# Altium schematic symbol library HVP012A.SCHLIB: 48 symbols
Pins are listed as number, name and electrical type; pins without a type are passive.

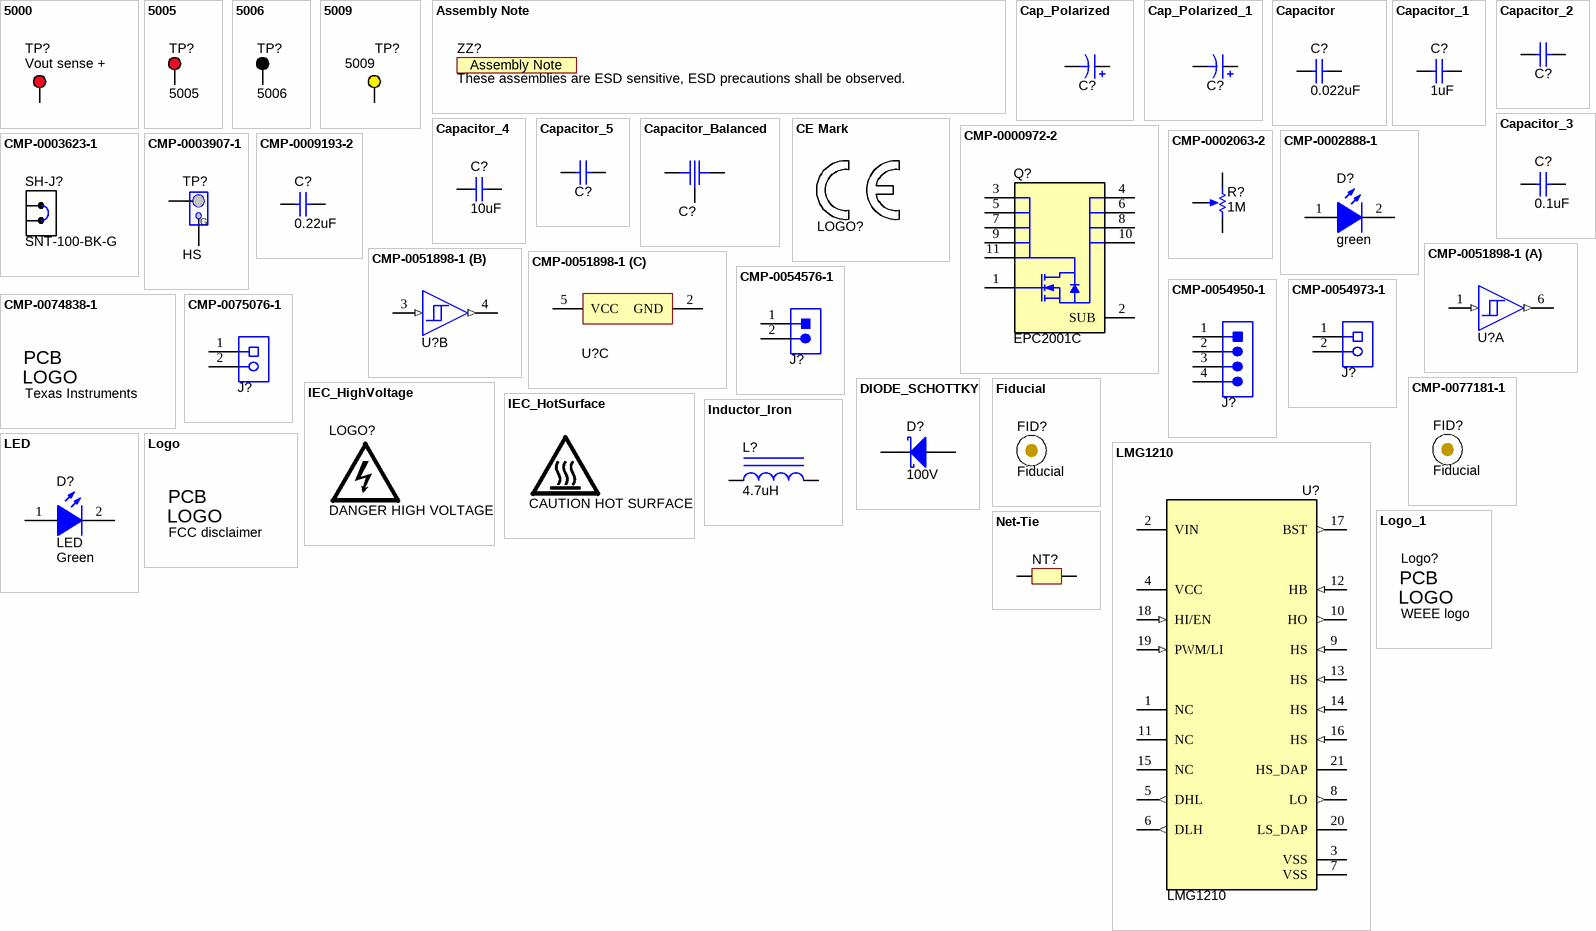
[diagram p0: symbols 5000 to Net-Tie]

## 5000
designator TP?, comment Vout sense +
Test Point, Miniature, Red, TH; Manufacturer: Keystone; PartNumber: 5000; CNHeader: FALSE; Green_Lifecycle: Active; Green_REACh: Passed; ContactFinish: Silver; CT: TRUE; ComponentLink1URL: http://www.keyelco.com/userAssets/file/M60-2p60.pdf; Supplier Part Number 2: 534-5000; Publisher: Texas Instruments; Supplier 2: Mouser; Color: Red; RoHS: Y; MountType: TH; Green_EU RoHS-2: Incomplete; Supplier 1: Digi-Key; Green_EU RoHS: Passed; PackageReference: Red Miniature Testpoint; CompType: Test Point; LatestRevisionDate: 26/05/2017; ComponentLink1Description: Datasheet URL; Supplier Part Number 1: 36-5000-ND
footprint Keystone5000 (For Keystone 500x miniature loop terminals)
pins: 1

## 5005
designator TP?
Test Point, Compact, Red, TH; Manufacturer: Keystone; CNHeader: FALSE; ContactFinish: Silver; CT: TRUE; Green_Lifecycle: Active; Green_REACh: Passed; PartNumber: 5005; PackageReference: Red Compact Testpoint; CompType: Test Point; RoHS: Y; MountType: TH; ComponentLink1Description: Datasheet URL; ComponentLink1URL: http://www.keyelco.com/userAssets/file/M60-2p60.pdf; Publisher: Texas Instruments; LatestRevisionDate: 26/05/2017; Supplier 1: Digi-Key; Supplier Part Number 1: 36-5005-ND; Supplier 2: Mouser; Supplier Part Number 2: 534-5005; Color: Red; Green_EU RoHS-2: Passed; Green_EU RoHS: Passed
footprint Keystone5005 (Keystone Compact loops)
pins: 1

## 5006
designator TP?
Test Point, Compact, Black, TH; Manufacturer: Keystone; CNHeader: FALSE; ContactFinish: Silver; CT: TRUE; Green_Lifecycle: Active; Green_REACh: Passed; PartNumber: 5006; PackageReference: Black Compact Testpoint; CompType: Test Point; RoHS: Y; MountType: TH; ComponentLink1Description: Datasheet URL; ComponentLink1URL: http://www.keyelco.com/userAssets/file/M60-2p60.pdf; Publisher: Texas Instruments; LatestRevisionDate: 26/05/2017; Supplier 1: Digi-Key; Supplier Part Number 1: 36-5006-ND; Supplier 2: Mouser; Supplier Part Number 2: 534-5006; Color: Black; Green_EU RoHS-2: Incomplete; Green_EU RoHS: Passed
footprint Keystone5006 (Keystone Compact loops)
pins: 1

## 5009
designator TP?
Test Point, Compact, Yellow, TH; Manufacturer: Keystone; ContactFinish: Silver; CNHeader: FALSE; CT: TRUE; Green_Lifecycle: Active; Green_REACh: Passed; PartNumber: 5009; PackageReference: Yellow Compact Testpoint; CompType: Test Point; RoHS: Y; MountType: TH; ComponentLink1Description: Datasheet URL; ComponentLink1URL: http://www.keyelco.com/userAssets/file/M60-2p60.pdf; Color: Yellow; Publisher: Texas Instruments; LatestRevisionDate: 26/05/2017; Supplier 1: Digi-Key; Supplier Part Number 1: 36-5009-ND; Supplier 2: Mouser; Supplier Part Number 2: 534-5009; Green_EU RoHS-2: Incomplete; Green_EU RoHS: Passed
footprint Keystone5009 (Keystone Compact loops)
pins: 1

## Assembly Note
designator ZZ?, comment These assemblies are ESD sensitive, ESD precautions shall be observed.  (no BOM)
CompType: AssemblyNote; ClassName: AssemblyNote; Publisher: Texas Instruments; LatestRevisionDate: 2017-08-10; Key: AssemblyNote
footprint AssemblyNote (Assembly Note)

## Cap_Polarized
designator C?  (value not drawn)
CAP, AL, 22 uF, 20 V, +/- 20%, 0.06 ohm, SMD; PartNumber: APXH200ARA220MF60G; Manufacturer: Chemi-Con; Polarized: Y; CompType: Capacitor; Value: 22uF; U/M: EA; Cap_F: 22µF; VDC_V: 20V; ESR_ohm: 0.06; IRMS_A: 1.65A; TaMin_C: -55°C; TaMax_C: 125°C; Cap_Case: F60; SizeAreaWB_mm2: 77.44; SizeArea_mm2: 46.24; SizeX_mm: 6.8; SizeZ_mm: 6; AEC Category: Q200; ValueDisplayed: 22uF; PackageReference: F60; RoHS: Y; Tolerance_%: 20%; Value1: 0.06 ohm; Value2: 20V; MountType: SMT; Technology: AL; Series: PXH; SizeY_mm: 6.8; Publisher: Texas Instruments; LatestRevisionDate: 2017-03-09; ComponentLink1Description: Datasheet link; ComponentLink1URL: http://www.chemi-con.co.jp/cgi-bin/CAT_DB/SEARCH/cat_db_al.cgi?e=e&j=p&pdfname=pxh; Supplier 1: Digi-Key; Supplier Part Number 1: 565-3149-1-ND; Supplier 2: Mouser; Supplier Part Number 2: 661-PXH20V220M; AEC Qualified: ?
footprint CAPSMT_62_F60 (6.3 x 5.7mm:  Chemi-Con F60)
pins: 1 +, 2 -

## Cap_Polarized_1
designator C?, comment Cap_Polarized  (value not drawn)
CAP, AL, 47 uF, 20 V, +/- 20%, 0.045 ohm, SMD; PartNumber: APXH200ARA470MH70G; Manufacturer: Chemi-Con; Polarized: Y; CompType: Capacitor; Value: 47uF; U/M: EA; Cap_F: 47µF; VDC_V: 20V; ESR_ohm: 0.045; IRMS_A: 2A; TaMin_C: -55°C; TaMax_C: 125°C; Cap_Case: H70; SizeAreaWB_mm2: 110.25; SizeArea_mm2: 72.25; SizeX_mm: 8.5; SizeZ_mm: 7; AEC Category: Q200; ValueDisplayed: 47uF; PackageReference: H70; RoHS: Y; Tolerance_%: 20%; Value1: 0.045 ohm; Value2: 20V; MountType: SMT; Technology: AL; Series: PXH; SizeY_mm: 8.5; Publisher: Texas Instruments; LatestRevisionDate: 2017-03-09; ComponentLink1Description: Datasheet link; ComponentLink1URL: http://www.chemi-con.co.jp/cgi-bin/CAT_DB/SEARCH/cat_db_al.cgi?e=e&j=p&pdfname=pxh; Supplier 1: Digi-Key; Supplier Part Number 1: 565-3150-1-ND; Supplier 2: Mouser; Supplier Part Number 2: 661-PXH20V470M; AEC Qualified: ?
footprint CAPSMT_62_H70 (8 x 6.7mm:  Chemi-Con H70)
pins: 1 +, 2 -

## Capacitor
designator C?  ValueDisplayed: 0.022uF  (hidden comment: Capacitor)
CAP, CERM, 0.022 uF, 250 V, +/- 10%, X7R, 0805; PartNumber: QMK212B7223KG-T; Manufacturer: Taiyo Yuden; Polarized: N; U/M: EA; Cap_F: 22nF; Value1: Unknown; VDC_V: 250V; TaMin_C: -55°C; TaMax_C: 125°C; Cap_Case: 0805; SizeArea_mm2: 2.5; SizeAreaWB_mm2: 6.75; SizeX_mm: 2; SizeY_mm: 1.25; SizeZ_mm: 1.45; AEC Category: Q200; CompType: Capacitor; Value: 0.022uF; PackageReference: 0805; RoHS: Y; Tolerance_%: 10%; Value2: 250V; MountType: SMT; Technology: Ceramic; TempCo: X7R; Published: 2008-06-19; Publisher: Texas Instruments; LatestRevisionDate: 2017-03-09; ComponentLink1Description: Datasheet link; ComponentLink1URL: http://www.yuden.co.jp/ut/product/pdf/dhmk_e.pdf; Supplier 1: Digi-Key; Supplier Part Number 1: 587-1272-1-ND; Supplier 2: Newark; Supplier Part Number 2: 77M8478; Supplier 3: Farnell; Supplier Part Number 3: 1683685; AEC Qualified: ?
footprint 0805_HV (0805 with 30mil clearance between pads)
footprint 0805M (0805 from SM-752 data)
footprint 0805 (0805 from SM-752 data)
footprint 0805L (0805 from SM-752 data)
footprint 0805_HV1 (Custom footprint based on analyzing multiple manufacturer recommendations)
pins: 1, 2

## Capacitor_1
designator C?, comment ValueDisplayed: 1uF  (hidden comment: Capacitor)
CAP, CERM, 1 uF, 250 V, +/- 10%, X7R, 2220; PartNumber: GRM55DR72E105KW01L; Manufacturer: MuRata; Polarized: N; Value: 1uF; U/M: EA; Cap_F: 1µF; ESR_ohm: 7.086m; Value1: 0.007086 ohm; VDC_V: 250V; IRMS_A: 2.0605A; TaMin_C: -55°C; TaMax_C: 125°C; Cap_Case: 2220; SizeArea_mm2: 28.5; SizeAreaWB_mm2: 53.9; SizeX_mm: 5.7; SizeY_mm: 5; SizeZ_mm: 2; AEC Category: Q200; CompType: Capacitor; PackageReference: 2220; RoHS: Y; Tolerance_%: 10%; Value2: 250V; MountType: SMT; Technology: Ceramic; TempCo: X7R; Published: 2008-06-19; Publisher: Texas Instruments; LatestRevisionDate: 2017-03-09; ComponentLink1Description: Datasheet link; ComponentLink1URL: http://psearch.en.murata.com/capacitor/product/GRM55DR72E105KW01%23.pdf; Supplier 1: Digi-Key; Supplier Part Number 1: 490-3550-1-ND; Supplier 2: Newark; Supplier Part Number 2: 14T3417; Supplier 3: Mouser; Supplier Part Number 3: 81-GRM55RR72E105K; AEC Qualified: N; AEC Grade: N/A
footprint 2220_200 (Chip Capacitor, Body 5.7x5.0mm, IPC Medium Density)
footprint 2220_200L (Chip Capacitor, Body 5.7x5.0mm, IPC High Density)
footprint 2220_200M (Chip Capacitor, Body 5.7x5.0mm, IPC Low Density)
pins: 1, 2

## Capacitor_2
designator C?, comment Capacitor  (value not drawn)
CAP, CERM, 0.22 uF, 250 V, +/- 10%, X7R, 1210; PartNumber: GRM32DR72E224KW01L; Manufacturer: MuRata; Polarized: N; Value: 0.22uF; U/M: EA; Cap_F: 220nF; Value1: Unknown; VDC_V: 250V; TaMin_C: -55°C; TaMax_C: 125°C; Cap_Case: 1210; SizeArea_mm2: 8; SizeAreaWB_mm2: 14.7; SizeX_mm: 3.2; SizeY_mm: 2.5; SizeZ_mm: 2.2; AEC Category: Q200; CompType: Capacitor; ValueDisplayed: 0.22uF; PackageReference: 1210; RoHS: Y; Tolerance_%: 10%; Value2: 250V; MountType: SMT; Technology: Ceramic; TempCo: X7R; Published: 2008-06-19; Publisher: Texas Instruments; LatestRevisionDate: 2017-03-09; ComponentLink1Description: Datasheet link; ComponentLink1URL: http://search.murata.co.jp/Ceramy/PnsearchViewAction.do?HnOFG=ON&HnNFG=ON&SEL_CNT=50&sLang=en&sKey=GRM32DR72E224KW01L&x=9&y=9&search=startwith; Supplier 1: Digi-Key; Supplier Part Number 1: 490-3545-1-ND; Supplier 2: Mouser; Supplier Part Number 2: 81-GRM32DR72E224KW01; Supplier 3: Farnell; Supplier Part Number 3: 1828959; AEC Qualified: ?
footprint 1210_220 (1210)
footprint 1210_220L (1210)
footprint 1210_220M (1210)
pins: 1, 2

## Capacitor_3
designator C?, comment ValueDisplayed: 0.1uF  (hidden comment: Capacitor)
CAP, CERM, 0.1 uF, 25 V, +/- 10%, X7R, 0603; PartNumber: GRM188R71E104KA01D; Manufacturer: MuRata; Polarized: N; Value: 0.1uF; U/M: EA; Cap_F: 100nF; Value1: Unknown; VDC_V: 25V; TaMin_C: -55°C; TaMax_C: 125°C; Cap_Case: 0603; AEC Category: Q200; SizeArea_mm2: 1.28; SizeAreaWB_mm2: 4.68; SizeX_mm: 1.6; SizeY_mm: 0.8; SizeZ_mm: 1; CompType: Capacitor; RoHS: Y; Tolerance_%: 10%; Value2: 25V; MountType: SMT; Technology: Ceramic; TempCo: X7R; Published: 2008-06-19; Publisher: Texas Instruments; LatestRevisionDate: 2017-03-09; ComponentLink1Description: Datasheet link; ComponentLink1URL: http://search.murata.co.jp/Ceramy/PnsearchViewAction.do?HnOFG=ON&HnNFG=ON&SEL_CNT=50&sLang=en&sKey=GRM188R71E104KA01D&x=9&y=9&search=startwith; Supplier 1: Digi-Key; Supplier Part Number 1: 490-1524-1-ND; Supplier 2: Mouser; Supplier Part Number 2: 81-GRM39X104K25; Supplier 3: Farnell; Supplier Part Number 3: 1828899; AEC Qualified: ?; PackageReference: 0603
footprint 0603 (0603 from SM-752 data)
footprint 0603_HV (Ernesto recommended land pattern.  26 mil between pads.)
footprint 0603L (0603 from SM-752 data)
footprint 0603S
footprint 0603M (0603 from SM-752 data)
pins: 1, 2

## Capacitor_4
designator C?, comment ValueDisplayed: 10uF  (hidden comment: Capacitor)
CAP, CERM, 10 uF, 25 V, +/- 10%, X7R, 1206; PartNumber: 885012208069; Manufacturer: Wurth Elektronik; Polarized: N; Value: 10uF; U/M: EA; Cap_F: 10µF; Value1: Unknown; VDC_V: 25V; TaMin_C: -55°C; TaMax_C: 125°C; Cap_Case: 1206; AEC Category: Q200; SizeArea_mm2: 5.12; SizeAreaWB_mm2: 10.92; SizeX_mm: 3.2; SizeY_mm: 1.6; SizeZ_mm: 1.35; CompType: Capacitor; PackageReference: 1206; RoHS: Y; Tolerance_%: 10%; Value2: 25V; MountType: SMT; Technology: Ceramic; TempCo: X7R; Published: 2008-06-19; Publisher: Texas Instruments; LatestRevisionDate: 2017-03-09; ComponentLink1Description: Datasheet link; ComponentLink1URL: http://katalog.we-online.de/pbs/datasheet/885012208069.pdf; Supplier 1: Digi-Key; Supplier Part Number 1: 732-7574-1-ND; Supplier 2: Mouser; Supplier Part Number 2: 710-885012208069; AEC Qualified: N; AEC Grade: N/A
footprint 1206 (1206 from SM-752 data)
footprint 1206L (1206 from SM-752 data)
footprint 1206M (1206 from SM-752 data)
pins: 1, 2

## Capacitor_5
designator C?, comment Capacitor  (value not drawn)
CAP, CERM, 10 pF, 50 V, +/- 5%, C0G/NP0, 0402; PartNumber: 500R07S100JV4T; Manufacturer: Johanson Technology; Polarized: N; Value: 10pF; U/M: EA; Value1: Unknown; VDC_V: 50V; TaMin_C: -55°C; TaMax_C: 125°C; Cap_Case: 0402; SizeArea_mm2: 0.5; SizeAreaWB_mm2: 3; SizeX_mm: 1; SizeZ_mm: 0.6; AEC Category: Q200; CompType: Capacitor; ValueDisplayed: 10pF; PackageReference: 0402; RoHS: Y; Cap_F: 10pF; Tolerance_%: 5%; Value2: 50V; MountType: SMT; Technology: Ceramic; TempCo: C0G/NP0; SizeY_mm: 0.5; Published: 2008-06-19; Publisher: Texas Instruments; LatestRevisionDate: 2017-03-09; ComponentLink1Description: Datasheet link; ComponentLink1URL: http://www.johansontechnology.com/images/stories/catalog/JTI_CAT_2012_MLCC_HighQ.pdf; AEC Qualified: ?
footprint 0402 (0402 from SM-752 data)
footprint 0402S (Based on C0402S footprint from PADS legacy)
footprint 0402L (0402 from SM-752 data)
footprint 0402M (0402 from SM-752 data)
pins: 1, 2

## Capacitor_Balanced
designator C?  (value not drawn)
Feedthru Capacitor, 0.47uF, 6.3V, SMD; PartNumber: YFF18PW0J474M; Manufacturer: TDK; CompType: Filter; Value: 0.47uF; MountType: SMT; ComponentLink1Description: Datasheet URL; ComponentLink1URL: http://product.tdk.com/en/catalog/datasheets/emc_esr_yff-p_en.pdf; RoHS: Y; PackageReference: 0603; Publisher: Texas Instruments; LatestRevisionDate: 09/03/2017; Supplier 1: Digi-Key; Supplier Part Number 1: 445-3028-1-ND; Supplier 2: Mouser; Supplier Part Number 2: 810-CKD61BJB0J474S
footprint YFF18PW (TDK)
pins: 1, 2, 3

## CE Mark
designator LOGO?  (value not drawn)  (no BOM)
SymbolCreator: a0412235; Published: 2009-03-03; Publisher: Texas Instruments; LatestRevisionDate: 2017-07-06; Lib Reference: CE Mark; PartNumber: CE Mark; Library Reference: CE Mark
footprint CE_Mark_5mm (Minimum text height for CE Mark)
footprint CE_Mark_10mm (Double the minimum text height for CE Mark)

## CMP-0000972-2
designator Q?, comment EPC2001C
MOSFET, N-CH, 100 V, 36 A, 4.105x1.632mm; Alternate Manufacturer: None; Manufacturer: EPC; SizeZ_mm: 0.815; ChType: N; Value2: 7.5 nC; VdsMax_V: 100V; SizeX_mm: 1.632; SizeAreaWB_mm2: 13.43636; SizeY_mm: 4.105; Vgs_V: 6V; QgTyp_nC: 7.5; Value: 100V; SizeArea_mm2: 6.69936; AEC Category: Q101; IdsMax_A: 36A; U/M: EA; Supplier 1: Digi-Key; Supplier Part Number 1: 917-1079-1-ND; PartNumber: EPC2001C; ComponentLink1Description: Datasheet link; CompType: MOSFET; LatestRevisionNote: Added parts.; Publisher: Texas Instruments; AEC Qualified: N; Published: 2008-06-19; RoHS: Y; LatestRevisionDate: 2017-03-09; PackageReference: 4.105x1.632mm; MountType: SMT; ComponentLink1URL: http://epc-co.com/epc/Portals/0/epc/documents/datasheets/epc2001c_datasheet.pdf; ClassName: FETs
footprint EPC2001 (SMD, 11-Leads, Body 4.105x1.632mm, Pitch 0.4mm)
pins: 1 G, 2 SUB, 3 D, 4 S, 5 D, 6 S, 7 D, 8 S, 9 D, 10 S, 11 D

## CMP-0002063-2
designator R?, comment value 1M  (hidden comment: Potentiometer)
TRIMMER 1M OHM 0.25W SMD; PartNumber: 3224X-1-105E; Manufacturer: Bourns; CompType: Trimmer; MountType: SMT; ComponentLink1Description: Datasheet URL; ComponentLink1URL: http://www.bourns.com/data/global/pdfs/3224.pdf; RoHS: Y; PackageReference: 3.5x5.3x4.8mm; Publisher: Texas Instruments; LatestRevisionDate: 09/03/2017; Supplier 1: Digi-Key; Supplier Part Number 1: 3224X-1-105ECT-ND; Supplier 2: Mouser; Supplier Part Number 2: 652-3224X-1-105E
footprint TRIM_3224X (Bourns)
pins: 1 CCW, 2 WIPER, 3 CW
1 alternate drawing of the same symbol

## CMP-0002888-1
designator D?, comment green
LED, Green, SMD; Manufacturer: Lite-On; PartNumber: LTST-C170KGKT; Io_A: 20mA; Value1: W; U/M: EA; Vf_V: 2V; Type: AlInGaP; ComponentLink1URL: http://optoelectronics.liteon.com/upload/download/DS22-2000-073/S_110_LTST-C170KGKT.pdf; Supplier Part Number 2: 859-LTST-C170KGKT; Publisher: Texas Instruments; Supplier 2: Mouser; Color: Green; Published: 2008-07-11; RoHS: Y; MountType: SMT; Value: Green; Supplier 1: Digi-Key; PackageReference: LED_0805; Value2: 2V; CompType: LED; LatestRevisionDate: 2017-03-09; ComponentLink1Description: Datasheet link; Supplier Part Number 1: 160-1414-1-ND
footprint LTST-C170KGKT_Green (LITE-ON)
pins: 1 A, 2 K

## CMP-0003623-1
designator SH-J?, comment SNT-100-BK-G
Shunt, 100mil, Gold plated, Black; Alternate PartNumber: 969102-0000-DA; Manufacturer: Samtec; Alternate Manufacturer: 3M; Value: 1x2; Note: You can "mate" this to a header by matching the designator.  i.e. use SH-J3 for header J3; ComponentLink1URL: http://www.samtec.com/ftppub/pdf/SNT.PDF; Key: SNT-100-BK-G; Publisher: Texas Instruments; Supplier 1: Digi-Key; CompType: Shunt; PackageReference: Shunt; LatestRevisionDate: 2017-03-09; ClassName: Shunt; RoHS: Y; Supplier Part Number 1: SNT-100-BK-G-ND; MountType: N/A; PartNumber: SNT-100-BK-G; ComponentLink1Description: Datasheet Link
footprint SNT-100-BK-G (Samtec STEP model)

## CMP-0003907-1
designator TP?, comment HS  (no BOM)
PIGTAIL; Manufacturer: Texas Instruments; Key: TESTPOINT_PIGTAIL; CompType: Test Point; Publisher: Texas Instruments; PackageReference: Pigtail Test Point; LatestRevisionDate: 2017-03-09; MountType: TH; PartNumber: TESTPOINT_PIGTAIL; ComponentLink1Description: Datasheet Link
footprint TESTPOINT_PIGTAIL (Pigtail)
pins: 1, 2
text: G

## CMP-0009193-2
designator C?, comment ValueDisplayed: 0.22uF  (hidden comment: Capacitor)
CAP, CERM, 0.22 uF, 250 V, +/- 10%, X7R, 1210; PartNumber: GRM32DR72E224KW01L; Manufacturer: MuRata; Polarized: N; Value: 0.22uF; U/M: EA; Cap_F: 220nF; Value1: Unknown; VDC_V: 250V; TaMin_C: -55°C; TaMax_C: 125°C; Cap_Case: 1210; SizeArea_mm2: 8; SizeAreaWB_mm2: 14.7; SizeX_mm: 3.2; SizeY_mm: 2.5; SizeZ_mm: 2.2; AEC Category: Q200; CompType: Capacitor; PackageReference: 1210; RoHS: Y; Tolerance_%: 10%; Value2: 250V; MountType: SMT; Technology: Ceramic; TempCo: X7R; Published: 2008-06-19; Publisher: Texas Instruments; LatestRevisionDate: 2017-03-09; ComponentLink1Description: Datasheet link; ComponentLink1URL: http://search.murata.co.jp/Ceramy/PnsearchViewAction.do?HnOFG=ON&HnNFG=ON&SEL_CNT=50&sLang=en&sKey=GRM32DR72E224KW01L&x=9&y=9&search=startwith; Supplier 1: Digi-Key; Supplier Part Number 1: 490-3545-1-ND; Supplier 2: Mouser; Supplier Part Number 2: 81-GRM32DR72E224KW01; Supplier 3: Farnell; Supplier Part Number 3: 1828959; AEC Qualified: ?
footprint 1210_220 (1210)
footprint 1210_220L (1210)
footprint 1210_220M (1210)
pins: 1, 2

## CMP-0051898-1
designator U?, comment SN74LVC2G17DBVR  (value not drawn)
Dual Schmitt-Trigger Buffer, DBV0006A, LARGE T&R; Manufacturer: Texas Instruments; F @ Nom Voltage(Max)(Mhz): 150; VCC(Max)(V): 5.5; tpd @ Nom Voltage(Max)(ns): 9.3,5.7,5.4,4.3; Sub-Family: Non-Inverting Buffer/Driver; Output Drive (IOL/IOH)(Max)(mA): 32/-32; Output Type: CMOS; Voltage(Nom)(V): 1.8,2.5,3.3,5; ICC @ Nom Voltage(Max)(mA): 0.01; Schmitt Trigger: Yes; Technology Family: LVC; VCC(Min)(V): 1.65; 3-State Output: No; Rating: Catalog; Bits(#): 2; Input Type: CMOS/TTL; Logic: True; DatasheetVersion: SCES381N; Generic Part Number: SN74LVC2G17; PackageReference: DBV0006A; Operating Temperature Range(C): -40 to 125,-40 to 85; PartId: 2
footprint DBV0006A_N (SOT23, 6-Leads, Body 2.9x1.6mm, Pitch 0.95mm, Lead Span 2.8mm, IPC Medium Density)
footprint DBV0006A_M (SOT23, 6-Leads, Body 2.9x1.6mm, Pitch 0.95mm, Lead Span 2.8mm, IPC Low Density)
footprint DBV0006A_L (SOT23, 6-Leads, Body 2.9x1.6mm, Pitch 0.95mm, Lead Span 2.8mm, IPC High Density)
part A pins: 1 1A (in), 6 1Y (out)
part B pins: 3 2A (in), 4 2Y (out)
part C pins: 2 GND (power), 5 VCC (power)

## CMP-0054576-1
designator J?, comment Header_2x1  (value not drawn)
Header, 2.54 mm, 2x1, Gold, TH; PartNumber: GBC02SAAN; Manufacturer: Sullins Connector Solutions; CNHeader: TRUE; CT: FALSE; PackageReference: Header, 2.54 mm, 2x1, TH; ClassName: Header; CompType: Header; RoHS: Y; MountType: TH; ComponentLink1Description: Datasheet URL; ComponentLink1URL: http://www.sullinscorp.com/catalogs/111_PAGE110-111_.100_MALE_HDR.pdf; Publisher: Texas Instruments; LatestRevisionDate: 26/05/2017
footprint Sullins_Gxx02SAAN (Header, 2.54 mm, 2x1, TH)
pins: 1, 2
1 alternate drawing of the same symbol

## CMP-0054950-1
designator J?, comment Header_4x1  (value not drawn)
Header, 100mil, 4x1, Tin, TH; PartNumber: 5-146278-4; Manufacturer: TE Connectivity; CNHeader: TRUE; CT: FALSE; Green_Lifecycle: Active; Green_REACh: Passed; PackageReference: Header, 4x1, 100mil, TH; ClassName: Header; CompType: Header; RoHS: Y; MountType: TH; ComponentLink1Description: Datasheet URL; ComponentLink1URL: http://www.te.com/commerce/DocumentDelivery/DDEController?Action=srchrtrv&DocNm=146278&DocType=Customer+Drawing&DocLang=English; Publisher: Texas Instruments; LatestRevisionDate: 26/05/2017; Supplier 1: Digi-Key; Supplier Part Number 1: 5-146278-4-ND; Supplier 2: Newark; Supplier Part Number 2: 40P2617; Supplier 3: Mouser; Supplier Part Number 3: 571-5-146278-4; Green_EU RoHS-2: Incomplete; Green_EU RoHS: Passed
footprint TE_5-146278-4 (TE CONNECTIVITY)
pins: 1, 2, 3, 4

## CMP-0054973-1
designator J?, comment Receptacle_2x1  (value not drawn)
Terminal Block, 2x1, 5.08mm, TH; PartNumber: 282841-2; Manufacturer: TE Connectivity; CNHeader: FALSE; CT: TRUE; Green_Lifecycle: Active; Green_REACh: Passed; PackageReference: 10.16x15.2x9mm; CompType: Terminal Block; RoHS: Y; MountType: TH; ComponentLink1Description: Datasheet URL; ComponentLink1URL: http://www.te.com/commerce/DocumentDelivery/DDEController?Action=srchrtrv&DocNm=282841&DocType=Customer+Drawing&DocLang=English; Publisher: Texas Instruments; LatestRevisionDate: 26/05/2017; Supplier 1: Digi-Key; Supplier Part Number 1: A98342-ND; Supplier 2: Newark; Supplier Part Number 2: 12H8419; Supplier 3: Mouser; Supplier Part Number 3: 571-2828412; Green_EU RoHS-2: Incomplete; Green_EU RoHS: Passed with Exemption
footprint TEC_282841-2 (TE Connectivity)
pins: 1, 2

## CMP-0074838-1
designator Logo?, comment Texas Instruments  (no BOM)
Texas Instrument Corporate Signature; Library Reference: Logo; SymbolCreator: a0412235; Lib Reference: TI_Logo; ClassName: Logo; Publisher: Texas Instruments; SymbolVersion: 2011-08-22; Published: 2009-03-03; LatestRevisionDate: 2017-07-06; PartNumber: Texas Instruments
footprint TI_Horizontal_Overlay_Medium
footprint TI_Horizontal_Overlay_Small
footprint TI_Stacked_SolderMask_Small
footprint TI_Stacked_SolderMask_Small_Vertical
footprint TI_Symbol_Overlay_Medium
footprint TI_Symbol_Overlay_Small
footprint TI_Symbol_SolderMask_Medium
footprint TI_Symbol_SolderMask_Small
footprint TI_Horizontal_SolderMask_Medium
footprint TI_Horizontal_SolderMask_Small
footprint TI_Stacked_Overlay_Medium
footprint TI_Stacked_Overlay_Medium_Vertical
footprint TI_Stacked_Overlay_Small
footprint TI_Stacked_Overlay_Small_Vertical
footprint TI_Stacked_SolderMask_Medium
footprint TI_Stacked_SolderMask_Medium_Vertical
text: PCB; LOGO

## CMP-0075076-1
designator J?, comment Receptacle_2x1  (value not drawn)
Terminal Block, 2.54mm, 2x1, Brass, TH; PartNumber: OSTVN02A150; Manufacturer: On-Shore Technology; CNHeader: False; CT: True; Green_Lifecycle: Not Set; Green_REACh: Incomplete; PackageReference: Terminal Block, 2.54mm, 2-pole, Brass, TH; CompType: Terminal Block; RoHS: Y; MountType: TH; ComponentLink1Description: Datasheet URL; ComponentLink1URL: http://www.on-shore.com/sites/default/files/manuals/ostvnxxa150.pdf; Publisher: Texas Instruments; LatestRevisionDate: 2017-07-12; Supplier 1: Digi-Key; Supplier Part Number 1: ED10561-ND; Green_EU RoHS-2: Incomplete; Green_EU RoHS: Incomplete
footprint On-Shore_OSTVN02A150 (Terminal Block, 2.54mm, 2-pole, Brass, TH)
pins: 1, 2

## CMP-0077181-1
designator FID?, comment Fiducial
Fiducial mark.  There is nothing to buy or mount.; CompType: Fiducial; PackageReference: N/A; Library Reference: Fiducial; ClassName: FiducialMark; Manufacturer: N/A; MountType: N/A; PartNumber: N/A
footprint Fiducial10-30
footprint Fiducial15-30
footprint Fiducial10-20
footprint Fiducial20-40
footprint Fiducial6.4-20

## DIODE_SCHOTTKY
designator D?, comment value 100V  (hidden comment: BAT46WJ,115)
Diode, Schottky, 100 V, 0.25 A, SOD-323F; Manufacturer: Nexperia; SizeAreaWB_mm2: 7.875; SizeArea_mm2: 3.125; TJmax_C: 150°C; AEC Category: Q101; SizeZ_mm: 0.8; Green_REACh: Incomplete; Io_A: 2.5dA; Vf_V: 8.5dV; SizeY_mm: 1.25; Value2: 0.85V; Green_Lifecycle: Not Set; U/M: EA; Value1: 0.25A; SizeX_mm: 2.5; ComponentLink1Description: Datasheet link; RoHS: Y; Supplier Part Number 3: 771-BAT46WJ115; Supplier 1: Digi-Key; Vr_V: 100V; AEC Qualified: ?; Green_EU RoHS: Incomplete; PackageReference: SOD-323F; PartNumber: BAT46WJ,115; Publisher: Texas Instruments; Supplier Part Number 2: 81R1832; Supplier 2: Newark; Published: 2008-06-26; LatestRevisionDate: 2017-07-25; ComponentLink1URL: http://www.nexperia.com/documents/data_sheet/BAT46WJ.pdf; CompType: Diode; MountType: SMT; Supplier Part Number 1: 568-6017-1-ND; Supplier 3: Mouser; Type: Schottky; Green_EU RoHS-2: Incomplete
footprint SOD-323F (NXP recommended land pattern)
pins: 1 K, 2 A

## Fiducial
designator FID?
Fiducial mark.  There is nothing to buy or mount.; CompType: Fiducial; PackageReference: N/A; Library Reference: Fiducial; ClassName: FiducialMark; Manufacturer: N/A; MountType: N/A; PartNumber: N/A
footprint Fiducial10-30
footprint Fiducial15-30
footprint Fiducial10-20
footprint Fiducial20-40
footprint Fiducial6.4-20

## IEC_HighVoltage
designator LOGO?, comment DANGER HIGH VOLTAGE  (no BOM)
IEC 61010-1 High Voltage Warning; SymbolCreator: a0412235; Lib Reference: IEC_HighVoltage; SymbolVersion: 2011-08-22; Published: 2009-03-03; Publisher: Texas Instruments; LatestRevisionDate: 2017-07-06; PartNumber: DANGER HIGH VOLTAGE; Library Reference: IEC_HighVoltage
footprint IEC_HighVoltage_Large
footprint IEC_HighVoltage_Small
footprint IEC_HighVoltage_Medium

## IEC_HotSurface
designator LOGO?, comment CAUTION HOT SURFACE  (no BOM)
IEC 61010-1 Hot Surface Warning; SymbolCreator: a0412235; Lib Reference: IEC_HotSurface; SymbolVersion: 2011-08-22; Published: 2009-03-03; Publisher: Texas Instruments; LatestRevisionDate: 2017-07-06; PartNumber: CAUTION HOT SURFACE; Library Reference: IEC_HotSurface
footprint IEC_HotSurface_Large
footprint IEC_HotSurface_Small
footprint IEC_HotSurface_Medium

## Inductor_Iron
designator L?  ValueDisplayed: 4.7uH  (hidden comment: Inductor_Iron)
Inductor, Shielded, Composite, 4.7 uH, 10.5 A, 0.00889 ohm, SMD; PartNumber: XAL8080-472ME; Manufacturer: Coilcraft; Value: 4.7uH; Ind_H: 4.7µH; Imax_A: 10.5A; Irms: 10.5A @ 20C rise; Isat: 17.4A @ 20% inductance drop; DCR_ohm: 8.89m; SizeAreaWB_mm2: 107.06; SizeArea_mm2: 69.66; SizeX_mm: 8.1; SizeY_mm: 8.6; SizeZ_mm: 8; AEC Category: Q200; Green_Lifecycle: Not Set; Green_REACh: Incomplete; CompType: Inductor; Value1: 0.00889 ohm; Value2: 10.5A; Technology: Shielded; MountType: SMT; Material: Composite; PackageReference: 8.1 x 8 x 8.6mm; Published: 2008-06-26; Publisher: Texas Instruments; LatestRevisionDate: 2017-06-02; ComponentLink1Description: Datasheet link; ComponentLink1URL: http://www.coilcraft.com/pdfs/xal8080.pdf; RoHS: Y; Supplier 1: Mouser; Supplier Part Number 1: 994-XAL8080-472MEB; Supplier 2: Farnell; Supplier Part Number 2: 2289135; AEC Qualified: ?; Green_EU RoHS-2: Incomplete; Green_EU RoHS: Incomplete
footprint XAL8080 (Coilcraft)
pins: 1, 2

## LED
designator D?  value Green
LED, Green, SMD; Manufacturer: Lite-On; PartNumber: LTST-C170KGKT; Type: AlInGaP; Vf_V: 2V; Io_A: 20mA; Value1: W; U/M: EA; CompType: LED; MountType: SMT; RoHS: Y; PackageReference: LED_0805; Value2: 2V; Color: Green; Published: 2008-07-11; Publisher: Texas Instruments; ComponentLink1URL: http://optoelectronics.liteon.com/upload/download/DS22-2000-073/S_110_LTST-C170KGKT.pdf; ComponentLink1Description: Datasheet link; LatestRevisionDate: 2017-03-09; Supplier 1: Digi-Key; Supplier Part Number 1: 160-1414-1-ND; Supplier 2: Mouser; Supplier Part Number 2: 859-LTST-C170KGKT
footprint LTST-C170KGKT_Green (LITE-ON)
pins: 1 A, 2 K

## LMG1210
designator U?
Advanced eGaN FET 300V Half-bridge Drive, RVR0019A (WQFN-19); PartNumber: LMG1210RVR; Manufacturer: Texas Instruments; SizeArea_mm2: 12; SizeAreaWB_mm2: 20; SizeX_mm: 4; SizeY_mm: 3; SizeZ_mm: 0.8; CompType: IC; U/M: EA; PackageReference: RVR0019A; PackageDescription: WQFN-19; MountType: SMT; ComponentLink1Description: Datasheet Link; ComponentLink1URL: https://sps06.itg.ti.com/sites/KMS/crossdivteams/altium/docs/ComponentDatasheets/LMG1210_SNOSD12.pdf; Publisher: Texas Instruments; LatestRevisionDate: 2017-03-09; Alternate Manufacturer: Texas Instruments
footprint RVR0019A (QFN, 19-Leads, Body 3x4mm, Pitch 0.5mm)
pins: 1 NC, 2 VIN (power), 3 VSS (power), 4 VCC (power), 5 DHL (out), 6 DLH (out), 7 VSS (power), 8 LO (out), 9 HS (in), 10 HO (out), 11 NC, 12 HB (in), 13 HS (in), 14 HS (in), 15 NC, 16 HS (in), 17 BST (out), 18 HI/EN (in), 19 PWM/LI (in), 20 LS_DAP, 21 HS_DAP

## Logo
designator Logo?, comment FCC disclaimer  (no BOM)
FCC_disclaimer; Library Reference: Logo; Published: 2009-03-03; Publisher: Texas Instruments; LatestRevisionDate: 2017-07-06; Lib Reference: FCC_disclaimer; PartNumber: FCC disclaimer
footprint FCC_disclaimer
footprint FCC_disclaimer_stacked
text: PCB; LOGO

## Logo_1
designator Logo?, comment WEEE logo  (no BOM)
Library Reference: WEEE logo; Lib Reference: WEEE logo; PartNumber: WEEE logo
footprint WEEE_Minimum (WEEElie bin)
text: PCB; LOGO

## Net-Tie
designator NT?  (value not drawn)  (net tie, no BOM)
Single point connection between nets.; MountType: SMT; CompType: Net-Tie; Manufacturer: N/A; PackageReference: N/A; PartNumber: N/A; Library Reference: Net-Tie
footprint Net-Tie_0805_HV_NoOverlay (0805_HV pads tied by 10mil copper trace which can be cut.  An 0805 part can be placed on pads.)
footprint Net-Tie_10milWide_30milLong (10mil net tie, no solder mask opening, no solder paste)
footprint Net-Tie_50milWide_30milLong (50mil net tie, no solder mask opening, no solder paste)
footprint Net-Tie_20milWide_60milLong (20mil net tie, no solder mask opening, no solder paste)
footprint Net-Tie_10mil (10mil net tie, no solder mask opening, no solder paste)
footprint NetTie_1206_NoOverlay (1206 pads tied by 10mil copper trace which can be cut.  Part can be placed on pads.)
footprint Net-Tie_0805_HV (0805_HV pads tied by 10mil copper trace which can be cut.  An 0805 part can be placed on pads.)
footprint NetTie_1206 (1206 pads tied by 10mil copper trace which can be cut.  Part can be placed on pads.)
footprint NetTie_0603 (Net Tie 0603 size)
footprint NetTie_0402 (Net Tie 0402 size)
pins: 1, 2

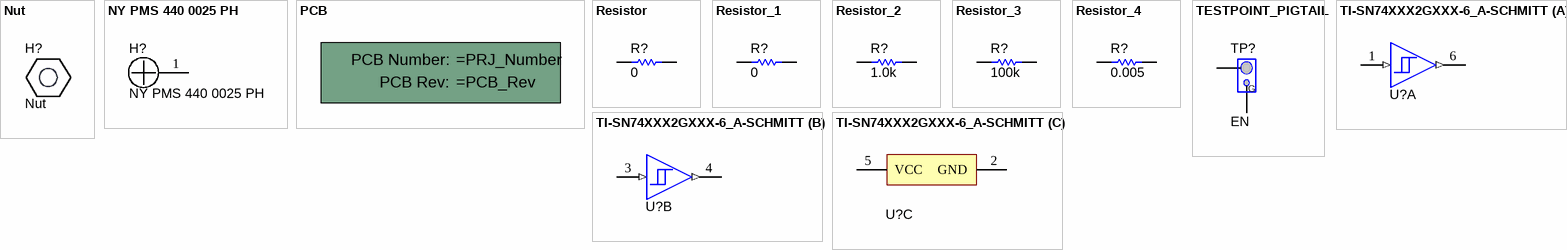
[diagram p1: symbols Nut to TI-SN74XXX2GXXX-6_A-SCHMITT]

## Nut
designator H?
Standoff, Hex, 0.5"L #4-40 Nylon; Manufacturer: Keystone; PartNumber: 1902C; CompType: Hardware; MountType: N/A; RoHS: Y; PackageReference: Standoff; ComponentLink1Description: Datasheet Link; ComponentLink1URL: http://www.keyelco.com/pdfs/M55-prod31.pdf; LatestRevisionDate: 2017-03-09; Publisher: Texas Instruments; Supplier 1: Digi-Key; Supplier Part Number 1: 36-1902C-ND; Key: 1902C
footprint Keystone_1902C (Hex Standoff, 4-40 threaded, nylon)

## NY PMS 440 0025 PH
designator H?
Machine Screw, Round, #4-40 x 1/4, Nylon, Philips panhead; Manufacturer: B&F Fastener Supply; CompType: Hardware; MountType: N/A; RoHS: Y; PartNumber: NY PMS 440 0025 PH; PackageReference: Screw; ComponentLink1Description: Datasheet Link; ComponentLink1URL: http://www.fasnetdirect.com/refguide/Nylpanms.pdf; ClassName: Mounting Holes; LatestRevisionDate: 2017-03-09; Publisher: Texas Instruments; Supplier 1: Digi-Key; Supplier Part Number 1: H542-ND; Key: NY PMS 440 0025 PH
footprint NY PMS 440 0025 PH (4-40 nylon screw and mounting hole)
footprint NY PMS 440 0025 PH_3Donly (4-40 nylon screw)
pins: 1

## PCB
designator !PCB?, comment Printed Circuit Board  (value not drawn)  (mechanical)
Manufacturer: Any; CompType: PCB; PartNumber: =PRJ_Number; RoHS: O; MountType: N/A; Publisher: Texas Instruments; LatestRevisionDate: 2017-03-09; Key: PCB
1 alternate drawing of the same symbol
text: PCB Number:; PCB Rev:

## Resistor
designator R?  ValueDisplayed: 0  (hidden comment: Resistor)
RES, 0, 5%, 0.1 W, AEC-Q200 Grade 0, 0402; PartNumber: ERJ-2GE0R00X; Manufacturer: Panasonic; Value: 0; Value_Code: 0000; Power_W: 100mW; Value2: 0.1W; VDC_V: 50V; TempCo: 600 ppm/C; EIA_Code: E24; AEC Category: Q200; AEC Qualified: Y; SizeArea_mm2: 0.5; SizeAreaWB_mm2: 3; SizeX_mm: 1; SizeZ_mm: 0.6; CompType: Resistor; PackageReference: 0402; RoHS: Y; Res_ohm: 0; Tolerance_%: 5%; Value1: 5%; MountType: SMT; Technology: Thick Film; ComponentLink1Description: Datasheet link; ComponentLink1URL: https://industrial.panasonic.com/cdbs/www-data/pdf/RDA0000/AOA0000C301.pdf; Supplier 1: Digi-Key; Supplier Part Number 1: P0.0JCT-ND; Supplier 2: Newark; Supplier Part Number 2: 65T8307; Supplier 3: Mouser; Supplier Part Number 3: 667-ERJ-2GE0R00X; AEC Grade: 0; SizeY_mm: 0.5
footprint 0402 (0402 from SM-752 data)
footprint 0402S (Based on C0402S footprint from PADS legacy)
footprint 0402L (0402 from SM-752 data)
footprint 0402M (0402 from SM-752 data)
pins: 1, 2

## Resistor_1
designator R?, comment ValueDisplayed: 0  (hidden comment: Resistor)
RES, 0, 5%, 0.05 W, AEC-Q200 Grade 1, 0201; PartNumber: ERJ-1GE0R00C; Manufacturer: Panasonic; Value: 0; Value_Code: 0000; Power_W: 50mW; Value2: 0.05W; VDC_V: 15V; TempCo: 600 ppm/C; SizeArea_mm2: 0.18; SizeAreaWB_mm2: 2.08; SizeX_mm: 0.6; SizeY_mm: 0.3; SizeZ_mm: 0.26; EIA_Code: E24; AEC Category: Q200; AEC Qualified: Y; AEC Grade: 1; CompType: Resistor; PackageReference: 0201; RoHS: Y; Res_ohm: 0; Tolerance_%: 5%; Value1: 5%; MountType: SMT; Technology: Thick Film; ComponentLink1Description: Datasheet link; ComponentLink1URL: https://industrial.panasonic.com/cdbs/www-data/pdf/RDA0000/AOA0000C301.pdf; Supplier 1: Digi-Key; Supplier Part Number 1: P0.0AGCT-ND; Supplier 2: Newark; Supplier Part Number 2: 53W4043; Supplier 3: Mouser; Supplier Part Number 3: 667-ERJ-1GE0R00C
footprint 0201 (Data from Kemet datasheet CC101_COM dated 7/28/11)
footprint 0201M (Data from Kemet datasheet CC101_COM dated 7/28/11)
footprint 0201L (Data from Kemet datasheet CC101_COM dated 7/28/11)
footprint 0201_Silk (Data from Kemet datasheet CC101_COM dated 7/28/11)
pins: 1, 2

## Resistor_2
designator R?, comment value 1.0k  (hidden comment: Resistor)
RES, 1.0 k, 5%, 0.1 W, AEC-Q200 Grade 0, 0603; PartNumber: CRCW06031K00JNEA; Manufacturer: Vishay-Dale; Res_ohm: 1k; Value_Code: 1k00; Power_W: 100mW; Value2: 0.1W; VDC_V: 75V; TempCo: 200 ppm/C; EIA_Code: E24; AEC Category: Q200; AEC Grade: 0; AEC Qualified: Y; SizeArea_mm2: 1.28; SizeX_mm: 1.6; SizeY_mm: 0.8; SizeZ_mm: 1; CompType: Resistor; PackageReference: 0603; RoHS: E; Tolerance_%: 5%; Value1: 5%; MountType: SMT; Technology: Thick Film; ComponentLink1Description: Datasheet link; ComponentLink1URL: http://www.vishay.com/docs/20035/dcrcwe3.pdf; Supplier 1: Digi-Key; Supplier Part Number 1: 541-1.0KGCT-ND; Supplier 2: Newark; Supplier Part Number 2: 59M6750; Supplier 3: Mouser; Supplier Part Number 3: 71-CRCW0603J-1.0K-E3; ValueDisplayed: 1.0k
footprint 0603 (0603 from SM-752 data)
footprint 0603_HV (Ernesto recommended land pattern.  26 mil between pads.)
footprint 0603L (0603 from SM-752 data)
footprint 0603S
footprint 0603M (0603 from SM-752 data)
pins: 1, 2

## Resistor_3
designator R?, comment ValueDisplayed: 100k  (hidden comment: Resistor)
RES, 100 k, 5%, 0.25 W, AEC-Q200 Grade 0, 1206; PartNumber: CRCW1206100KJNEA; Manufacturer: Vishay-Dale; Value: 100k; Power_W: 250mW; Value2: 0.25W; VDC_V: 200V; TempCo: 200 ppm/C; SizeArea_mm2: 5.12; SizeX_mm: 3.2; SizeY_mm: 1.6; SizeZ_mm: 1.35; EIA_Code: E24; AEC Category: Q200; AEC Qualified: Y; AEC Grade: 0; CompType: Resistor; PackageReference: 1206; RoHS: E; Res_ohm: 100k; Value_Code: 100k; Tolerance_%: 5%; Value1: 5%; MountType: SMT; Technology: Thick Film; ComponentLink1Description: Datasheet link; ComponentLink1URL: http://www.vishay.com/docs/20035/dcrcwe3.pdf; Supplier 1: Digi-Key; Supplier Part Number 1: 541-100KECT-ND; Supplier 2: Newark; Supplier Part Number 2: 59M6947; Supplier 3: Farnell; Supplier Part Number 3: 1534576
footprint 1206 (1206 from SM-752 data)
footprint 1206L (1206 from SM-752 data)
footprint 1206M (1206 from SM-752 data)
pins: 1, 2

## Resistor_4
designator R?, comment ValueDisplayed: 0.005  (hidden comment: PRL1632-R005-F-T1)
RES, 0.005, 1%, 1 W, 0612; Manufacturer: Susumu Co Ltd; Power_W: 1W; TempCo: 350 ppm/C; SizeAreaWB_mm2: 10.92; Value_Code: 5L000; U/M: EA; Value: 0.005; EIA_Code: E96; Res_ohm: 5m; SizeX_mm: 1.6; SizeY_mm: 3.2; SizeZ_mm: 0.85; SizeArea_mm2: 5.12; CompType: Resistor; AEC Category: Q200; Supplier Part Number 2: 754-PRL1632-R005-FT1; Publisher: Texas Instruments; Supplier 2: Mouser; Supplier Part Number 3: 1266208; Supplier 3: Farnell; Published: 2008-06-26; RoHS: Y; Value1: 1%; MountType: SMT; Supplier 1: Digi-Key; PackageReference: 0612; Tolerance_%: 1%; Value2: 1W; LatestRevisionDate: 2017-03-09; PartNumber: PRL1632-R005-F-T1; AEC Qualified: ?; ComponentLink1Description: Datasheet link; Supplier Part Number 1: PRL1632.005FCT-ND; Technology: Thin Film; ComponentLink1URL: http://www.susumu-usa.com/common/pdf/PRL_RL_Data_sheet.pdf
footprint 0612 (Panasonic recommended land pattern, fb97d03ed01.pdf dated April 2008)
pins: 1, 2

## TESTPOINT_PIGTAIL
designator TP?, comment EN  (no BOM)
PIGTAIL; Manufacturer: Texas Instruments; Key: TESTPOINT_PIGTAIL; CompType: Test Point; Publisher: Texas Instruments; PackageReference: Pigtail Test Point; LatestRevisionDate: 2017-03-09; MountType: TH; PartNumber: TESTPOINT_PIGTAIL; ComponentLink1Description: Datasheet Link
footprint TESTPOINT_PIGTAIL (Pigtail)
pins: 1, 2
text: G

## TI-SN74XXX2GXXX-6_A-SCHMITT
designator U?, comment SN74LVC2G17DBVR  (value not drawn)
Dual Schmitt-Trigger Buffer, DBV0006A, LARGE T&R; Manufacturer: Texas Instruments; F @ Nom Voltage(Max)(Mhz): 150; VCC(Max)(V): 5.5; tpd @ Nom Voltage(Max)(ns): 9.3,5.7,5.4,4.3; Sub-Family: Non-Inverting Buffer/Driver; Output Drive (IOL/IOH)(Max)(mA): 32/-32; Output Type: CMOS; Voltage(Nom)(V): 1.8,2.5,3.3,5; ICC @ Nom Voltage(Max)(mA): 0.01; Schmitt Trigger: Yes; Technology Family: LVC; VCC(Min)(V): 1.65; 3-State Output: No; Rating: Catalog; Bits(#): 2; Input Type: CMOS/TTL; Logic: True; DatasheetVersion: SCES381N; Generic Part Number: SN74LVC2G17; PackageReference: DBV0006A; Operating Temperature Range(C): -40 to 125,-40 to 85
footprint DBV0006A_N (SOT23, 6-Leads, Body 2.9x1.6mm, Pitch 0.95mm, Lead Span 2.8mm, IPC Medium Density)
footprint DBV0006A_M (SOT23, 6-Leads, Body 2.9x1.6mm, Pitch 0.95mm, Lead Span 2.8mm, IPC Low Density)
footprint DBV0006A_L (SOT23, 6-Leads, Body 2.9x1.6mm, Pitch 0.95mm, Lead Span 2.8mm, IPC High Density)
part A pins: 1 1A (in), 6 1Y (out)
part B pins: 3 2A (in), 4 2Y (out)
part C pins: 2 GND (power), 5 VCC (power)